# Altium footprint library LT3680EMSE&hash_TRPBF.PcbLib: 3 footprints
Each footprint in its own frame and in the unit in brackets; x right, y up, seen from the top. Pads: shape width x height; smd on the part's side, far side on the other; paste and mask are expansions set on the pad; w line width, h text height; cw(c..) or ccw(c..) is an arc to the next point about the centre after c.
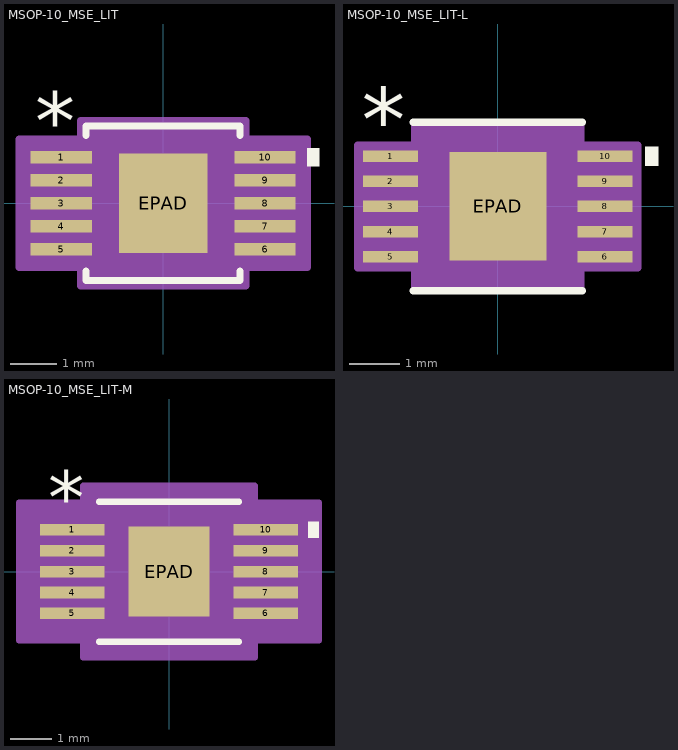
[diagram p0: the footprints below, top view; thin cyan lines are the x and y axes]

## MSOP-10_MSE_LIT [mil]
pads (11):
  rect 52.5x11 smd paste+0 mask+0: 1(-87.25,39.4) 2(-87.25,19.7) 3(-87.25,0) 4(-87.25,-19.7) 5(-87.25,-39.4) 6(87.25,-39.4) 7(87.25,-19.7) 8(87.25,0) 9(87.25,19.7) 10(87.25,39.4)
  rect 76x85 smd paste+0 mask+0: EPAD(0,0)
Top Overlay:
  region: 123.5,46.9 133.5,46.9 133.5,31.9 123.5,31.9
  lines w6: -66,-58 -66,-66 66,-66 66,-58 ; -66,58 -66,66 66,66 66,58
  text "*" at -109.75,45.4 h50
Mechanical 13:
  lines w0: -12,61 ccw(c0,61) 12,61
  lines w1: -99.5,-44.9 -99.5,-33.9 -61,-33.9 -61,-44.9 -99.5,-44.9 ; -99.5,-25.2 -99.5,-14.2 -61,-14.2 -61,-25.2 -99.5,-25.2 ; -99.5,-5.5 -99.5,5.5 -61,5.5 -61,-5.5 -99.5,-5.5 ; -99.5,14.2 -99.5,25.2 -61,25.2 -61,14.2 -99.5,14.2 ; -99.5,33.9 -99.5,44.9 -61,44.9 -61,33.9 -99.5,33.9 ; -61,-61 61,-61 61,61 -61,61 -61,-61 ; 61,-44.9 61,-33.9 99.5,-33.9 99.5,-44.9 61,-44.9 ; 61,-25.2 61,-14.2 99.5,-14.2 99.5,-25.2 61,-25.2 ; 61,-5.5 61,5.5 99.5,5.5 99.5,-5.5 61,-5.5 ; 61,14.2 61,25.2 99.5,25.2 99.5,14.2 61,14.2 ; 61,33.9 61,44.9 99.5,44.9 99.5,33.9 61,33.9
  text "*" at -58.5,8 h50
Mechanical 15:
  region: -71,-54.9 -123.5,-54.9 -123.5,54.9 -71,54.9 -71,71 71,71 71,54.9 123.5,54.9 123.5,-54.9 71,-54.9 71,-71 -71,-71
  lines w6: -123.5,-54.9 -123.5,54.9 -71,54.9 -71,71 71,71 71,54.9 123.5,54.9 123.5,-54.9 71,-54.9 71,-71 -71,-71 -71,-54.9 -123.5,-54.9
3D body "MSOP-10_MSE_LIT.step": height 43.11, standoff -2.01, extent -99.49,-60.98 99.49,60.98

## MSOP-10_MSE_LIT-L [mil]
pads (11):
  rect 43x9 smd paste+0 mask+0: 1(-84,39.4) 2(-84,19.7) 3(-84,0) 4(-84,-19.7) 5(-84,-39.4) 6(84,-39.4) 7(84,-19.7) 8(84,0) 9(84,19.7) 10(84,39.4)
  rect 76x85 smd paste+0 mask+0: EPAD(0,0)
Top Overlay:
  region: 115.5,46.9 125.5,46.9 125.5,31.9 115.5,31.9
  lines w6: -66,-66 66,-66 ; -66,66 66,66
  text "*" at -106.5,43.4 h50
Mechanical 13:
  lines w0: -12,61 ccw(c0,61) 12,61
  lines w1: -99.5,-44.9 -99.5,-33.9 -61,-33.9 -61,-44.9 -99.5,-44.9 ; -99.5,-25.2 -99.5,-14.2 -61,-14.2 -61,-25.2 -99.5,-25.2 ; -99.5,-5.5 -99.5,5.5 -61,5.5 -61,-5.5 -99.5,-5.5 ; -99.5,14.2 -99.5,25.2 -61,25.2 -61,14.2 -99.5,14.2 ; -99.5,33.9 -99.5,44.9 -61,44.9 -61,33.9 -99.5,33.9 ; -61,-61 61,-61 61,61 -61,61 -61,-61 ; 61,-44.9 61,-33.9 99.5,-33.9 99.5,-44.9 61,-44.9 ; 61,-25.2 61,-14.2 99.5,-14.2 99.5,-25.2 61,-25.2 ; 61,-5.5 61,5.5 99.5,5.5 99.5,-5.5 61,-5.5 ; 61,14.2 61,25.2 99.5,25.2 99.5,14.2 61,14.2 ; 61,33.9 61,44.9 99.5,44.9 99.5,33.9 61,33.9
  text "*" at -58.5,8 h50
Mechanical 15:
  region: -65,-47.9 -109.5,-47.9 -109.5,47.9 -65,47.9 -65,65 65,65 65,47.9 109.5,47.9 109.5,-47.9 65,-47.9 65,-65 -65,-65
  lines w6: -109.5,-47.9 -109.5,47.9 -65,47.9 -65,65 65,65 65,47.9 109.5,47.9 109.5,-47.9 65,-47.9 65,-65 -65,-65 -65,-47.9 -109.5,-47.9
3D body "MSOP-10_MSE_LIT.step": height 43.11, standoff -2.01, extent -99.49,-60.98 99.49,60.98

## MSOP-10_MSE_LIT-M [mil]
pads (11):
  rect 60.5x11 smd paste+0 mask+0: 1(-91.25,39.4) 2(-91.25,19.7) 3(-91.25,0) 4(-91.25,-19.7) 5(-91.25,-39.4) 6(91.25,-39.4) 7(91.25,-19.7) 8(91.25,0) 9(91.25,19.7) 10(91.25,39.4)
  rect 76x85 smd paste+0 mask+0: EPAD(0,0)
Top Overlay:
  region: 131.5,46.9 141.5,46.9 141.5,31.9 131.5,31.9
  lines w6: -66,-66 66,-66 ; -66,66 66,66
  text "*" at -113.75,45.4 h50
Mechanical 13:
  lines w0: -12,61 ccw(c0,61) 12,61
  lines w1: -99.5,-44.9 -99.5,-33.9 -61,-33.9 -61,-44.9 -99.5,-44.9 ; -99.5,-25.2 -99.5,-14.2 -61,-14.2 -61,-25.2 -99.5,-25.2 ; -99.5,-5.5 -99.5,5.5 -61,5.5 -61,-5.5 -99.5,-5.5 ; -99.5,14.2 -99.5,25.2 -61,25.2 -61,14.2 -99.5,14.2 ; -99.5,33.9 -99.5,44.9 -61,44.9 -61,33.9 -99.5,33.9 ; -61,-61 61,-61 61,61 -61,61 -61,-61 ; 61,-44.9 61,-33.9 99.5,-33.9 99.5,-44.9 61,-44.9 ; 61,-25.2 61,-14.2 99.5,-14.2 99.5,-25.2 61,-25.2 ; 61,-5.5 61,5.5 99.5,5.5 99.5,-5.5 61,-5.5 ; 61,14.2 61,25.2 99.5,25.2 99.5,14.2 61,14.2 ; 61,33.9 61,44.9 99.5,44.9 99.5,33.9 61,33.9
  text "*" at -58.5,8 h50
Mechanical 15:
  region: -81,-64.9 -141.5,-64.9 -141.5,64.9 -81,64.9 -81,81 81,81 81,64.9 141.5,64.9 141.5,-64.9 81,-64.9 81,-81 -81,-81
  lines w6: -141.5,-64.9 -141.5,64.9 -81,64.9 -81,81 81,81 81,64.9 141.5,64.9 141.5,-64.9 81,-64.9 81,-81 -81,-81 -81,-64.9 -141.5,-64.9
3D body "MSOP-10_MSE_LIT.step": height 43.11, standoff -2.01, extent -99.49,-60.98 99.49,60.98